# EAGLE library part 690367280676 (library Eagle_BOARD-TO-BOARD_CONNECTORS (rev18b))
WR-MM Female SMT Connector with Polarization, 6 Pins=>Code : Con_BTB_MM_Female_SMT_690367280676 <http://katalog.we-online.de/media/thumbs2/eican/thb_Con_BTB_MM_Female_SMT_69036728xx76_pf2.jpg> Details see: http://katalog.we-online.de/en/em/6903_6728_xx_76 Created 2014-06-04, Karrer Zheng 2014 (C) Würth Elektronik
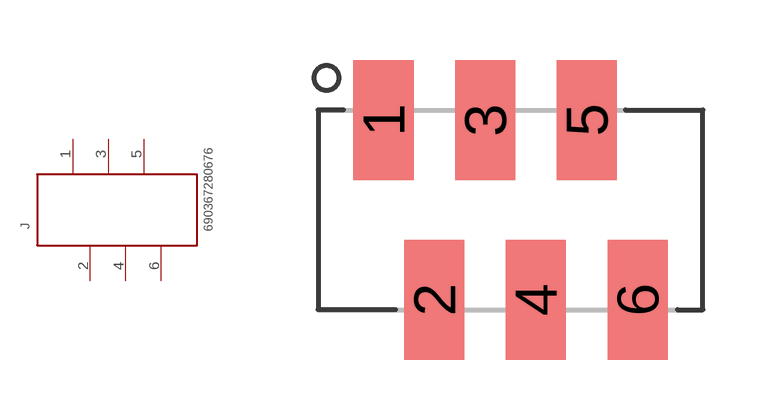
[diagram p349: symbol with the pads of 690367280676; footprint 690367280676]

Designator prefix J

## 690367280676  [690367280676]
1  6  pas
2  5  pas
3  4  pas
4  3  pas
5  2  pas
6  1  pas

## Footprint 690367280676 (pad centres in mm)
WR-MM Female SMT Connector with Polarization, 6 pins
smd 1.5 x 3: 1 -3.175,2.25; 2 -1.905,-2.25; 3 -0.635,2.25; 4 0.635,-2.25; 5 1.905,2.25; 6 3.175,-2.25